# Altium integrated library TKAI0163WP01-01.IntLib: 35 symbols
Pins are listed as number, name and electrical type; pins without a type are passive.

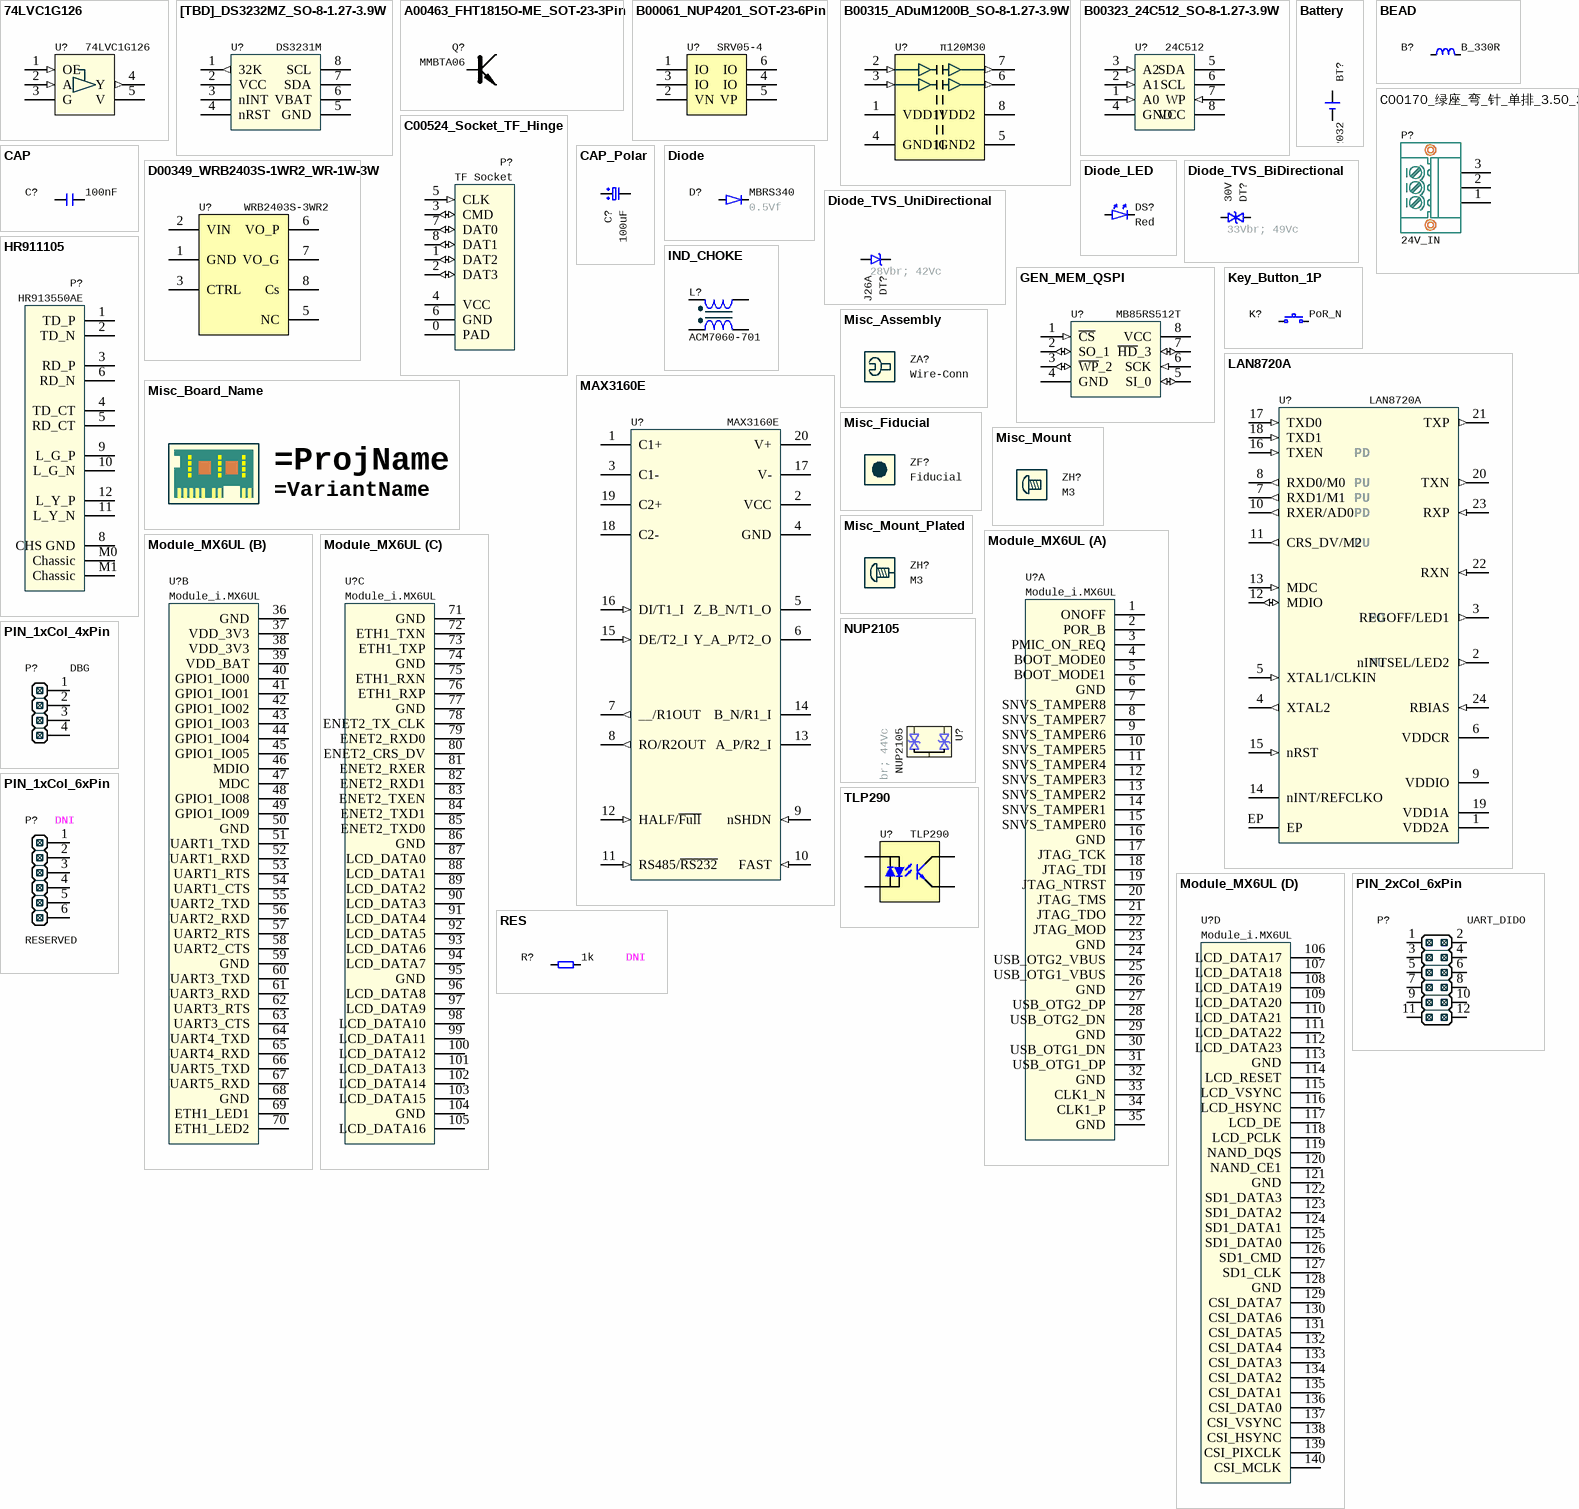
[diagram p0: symbols 74LVC1G126 to TLP290]

## 74LVC1G126
designator U?
U-LVC1G126; 02_CMT: NXP GW, TM: VN; TI DCK, TM: CN; 10_Code: C55052; 11_Name: 贴装芯片_Nexperia_74LVC1G126GW
footprint TSSOP-5P-0.65BSC-2.15x1.40Bmax-1.10Hmax (TSSOP, 5 Pad, JEDEC MO-203 AA)
pins: 1 OE (in), 2 A (in), 3 G (power), 4 Y (out), 5 V (power)

## [TBD]_DS3232MZ_SO-8-1.27-3.9W
designator U?, comment DS3231M
U-DS3231M; 10_Code: C107410; 11_Name: 贴装芯片_DS3231MZ
footprint SO-8-1.27BSC-3.9W (SOIC, 8 Pad, 1.27mm BSC, 3.9mm Width, JEDEC MS-012 AA)
pins: 1 32K (out), 2 VCC (power), 3 nINT (oc), 4 nRST (oc), 5 GND (power), 6 VBAT (power), 7 SDA (oc), 8 SCL (oc)

## A00463_FHT1815O-ME_SOT-23-3Pin
designator Q?, comment MMBTA06
Q-MMBTA06; 10_Code: C8518; 11_Name: 贴装元件_三极管_MMBTA06
footprint SOT-23-3P-0.95BSC-3.00x1.40Bmax-1.20Hmax (SOT-23, 3 Pad, JEDEC TO-236 AA/AB)
pins: BL B, BR E, TC C

## B00061_NUP4201_SOT-23-6Pin
designator U?, comment SRV05-4
U-SRV05-4; 02_CMT: TM: S5; CP: NUP4201MR6T1G, TM: 63; 10_Code: C85364; 11_Name: 贴装芯片_ProTek_SRV05-4-P-T7
footprint SOT-23-6P-0.95BSC-3.00x1.70Bmax-1.45Hmax (SOT-23, 6 Pad, JEDEC MO-178 AB)
pins: 1 IO, 2 VN, 3 IO, 4 IO, 5 VP, 6 IO

## B00315_ADuM1200B_SO-8-1.27-3.9W
designator U?, comment π120M30
U-π120M30; 10_Code: C471595; 11_Name: 贴装芯片_π120M30
footprint SO-8-1.27BSC-3.9W (SOIC, 8 Pad, 1.27mm BSC, 3.9mm Width, JEDEC MS-012 AA)
pins: 1 VDD1 (power), 2 VIA (in), 3 VIB (in), 4 GND1 (power), 5 GND2 (power), 6 VOB (out), 7 VOA (out), 8 VDD2 (power)

## B00323_24C512_SO-8-1.27-3.9W
designator U?, comment 24C512
U-24C512; 02_CMT: TM: 2FCD; 10_Code: C12371; 11_Name: 贴装芯片_AT24C512C-SSHD-T
footprint SO-8-1.27BSC-3.9W (SOIC, 8 Pad, 1.27mm BSC, 3.9mm Width, JEDEC MS-012 AA)
pins: 1 A0 (in), 2 A1 (in), 3 A2 (in), 4 GND (power), 5 SDA (oc), 6 SCL (oc), 7 WP (in), 8 VCC (power)

## Battery
designator BT?, comment CR2032
P-SKT-CR2032; 10_Code: C70377; 11_Name: 贴装插座_CR2032_Q&J_CR2032-BS-6-1
footprint C00015 (C00015, 2 Pad, 贴装插座_CR2032_白, CR2032 Battery Socket)
pins: N, P

## BEAD
designator B?, comment B_330R
B-0603-330R; 02_CMT: TDK MPZ1608S331ATA00; 10_Code: C107334; 11_Name: 贴装磁珠_0603_330R_100MHz_80mRdc_1Amin
footprint B-0603-m1608 (Ferrite Bead, 2 Pad, 0603-m1608)
pins: 1, 2

## C00170_绿座_弯_针_单排_3.50_3P_紧固
designator P?, comment 24V_IN
P-插装绿座_弯_针_单排_3.5_3P_紧固; 11_Name: 插装绿座_弯_针_单排_3.5_3P_紧固
footprint C00170 (C00170, 3 Pad, 插装绿座_弯_针_单排_3.5_3P_紧固, HMRZ HC501M-3.50)
pins: 1, 2, 3

## C00524_Socket_TF_Hinge
designator P?, comment TF Socket
P-TF_Socket; 10_Code: C164170; 11_Name: 贴装插座_TF卡_翻盖_Molex_47219-2001
footprint C00524 (C00524, 12 Pad, 贴装插座_SD卡_0472192001, TF Card Socket, Hinge, Molex 47219-0001/2001/2021)
pins: 0 PAD (power), 1 DAT2 (io), 2 DAT3 (io), 3 CMD (io), 4 VCC (power), 5 CLK (in), 6 GND (power), 7 DAT0 (io), 8 DAT1 (io)

## CAP
designator C?, comment 100nF
C-0603-100nF; 11_Name: 贴装电容_0603_100nF_10%_50V_X7R
footprint C-0603-m1608 (Capacitor, 2 Pad, 0603-m1608)
pins: 1, 2

## CAP_Polar
designator C?, comment 100uF
C-Al-R-D8H9-100uF; 02_CMT: AISHI SPZ1HM101F09O00RAXXX; 10_Code: C171434; 11_Name: 插装固态铝电容_D8_H9_100uF_20%_50V
footprint C-Al-R-D8-H9 (Capacitor Polar, 2 Pad, Al, Radial, D8, H9typ/10max)
pins: 1, 2

## D00349_WRB2403S-1WR2_WR-1W-3W
designator U?, comment WRB2403S-3WR2
U-WRB2403S-3WR2; 11_Name: 插装模块_Mornsun_WRB2403S-3WR2
footprint MORNSUN_WR_1W_3W (Isolated Power Module, 7 Pad, Mornsun WR[A/B]_S-[1/3]W, Isolated DC/DC)
pins: 1 GND (power), 2 VIN (power), 3 CTRL, 5 NC, 6 VO_P (power), 7 VO_G (power), 8 Cs

## Diode
designator D?, comment MBRS340  01_INF: 0.5Vf
D-SMC-MBRS340; 02_CMT: OnSemi MBRS340T3G; 10_Code: C40326; 11_Name: 贴装元件_肖特基二极管_MBRS340_SMC
footprint D-SMC (Diode, 2 Pad, SMC, UniDirection, Case403, JEDEC DO-214 AB)
pins: 1, 2

## Diode_LED
designator DS?, comment Red
DS-0603-LED-Top-Red; 10_Code: C375444; 11_Name: 贴装元件_LED_0603_红
footprint DS-0603-m1608 (Diode LED, 2 Pad, 0603-m1608)
pins: 1, 2

## Diode_TVS_BiDirectional
designator DT?, comment 30V  01_INF: 33Vbr; 49Vc
DT-SMA-SMAJ30CA; 02_CMT: LittleFuse SMAJ30CA; TM: YK; 10_Code: C83322; 11_Name: 贴装元件_双向TVS_SMA_30V
footprint D-SMA-Bi (Diode, 2 Pad, SMA, Bi-Direction, Case403B, JEDEC DO-214 AC)
footprint D-SMB-Bi (Diode, 2 Pad, SMB, Bi-Direction, Case403A, JEDEC DO-214 AA)
footprint D-SMC-Bi (Diode, 2 Pad, SMC, Bi-Direction, Case403, JEDEC DO-214 AB)
footprint D-SMF-BI (Diode, 2 Pad, SMF, Bi-Direction, SOD-123FL, JEDEC DO-219 AB)
pins: 1, 2

## Diode_TVS_UniDirectional
designator DT?, comment SMCJ26A  01_INF: 28Vbr; 42Vc
DT-SMC-SMCJ26A; 02_CMT: LittleFuse SMCJ26A; TM: GFE; 10_Code: C224046; 11_Name: 贴装元件_单向TVS_SMC_26V
footprint D-SMC (Diode, 2 Pad, SMC, UniDirection, Case403, JEDEC DO-214 AB)
pins: 1, 2

## GEN_MEM_QSPI
designator U?, comment MB85RS512T
U-MB85RS512T; 10_Code: C93052; 11_Name: 贴装芯片_MB85RS512T
footprint SO-8-1.27BSC-3.9W (SOIC, 8 Pad, 1.27mm BSC, 3.9mm Width, JEDEC MS-012 AA)
footprint WSON-8-1.27BSC-8x6Body (WSON, 8 Pad, 1.27mm BSC, 8x6mm Body)
pins: 1 ~{CS} (in), 2 SO_1 (io), 3 ~{WP}_2 (io), 4 GND (power), 5 SI_0 (io), 6 SCK (in), 7 ~{HD}_3 (io), 8 VCC (power)

## HR911105
designator P?, comment HR913550AE
P-HR913550AE; 10_Code: C192706; 11_Name: 插装元件_HR913550AE
footprint HanRen_HR911105 (HanRen HR911105, 14 Pad, 插装插座_RJ45_MAG_LED_HR911105)
pins: 1 TD_P, 2 TD_N, 3 RD_P, 4 TD_CT, 5 RD_CT, 6 RD_N, 8 CHS GND, 9 L_G_P, 10 L_G_N, 11 L_Y_N, 12 L_Y_P, M0 Chassic, M1 Chassic

## IND_CHOKE
designator L?, comment ACM7060-701
L-ACM7060-701; 10_Code: C78246; 11_Name: 贴装电感_共模_ACM7060-701-2PL-TL01
footprint TDK_Choke_ACM7060 (Power Choke, 4 Pad, 7.0x6.0mm Body, TDK Power Choke)
pins: A1, A2, B1, B2

## Key_Button_1P
designator K?, comment PoR_N
K-BTN-Top; 10_Code: C118141; 11_Name: 贴装元件_轻触开关_顶按_韩荣_K2-1107ST-A4SW-06
footprint D00008 (D00008, 2 Pad, 开关_复位_3.8*6*2.5_2P_贴装_顶按)
pins: 1, 2

## LAN8720A
designator U?
U-LAN8720A; 10_Code: C17146; 11_Name: 贴装芯片_LAN8720AI
footprint VQFN-24-S-0.5BSC-4.00SQBtyp-2.50SQEPtyp-1.00Hmax (VQFN-24, 25 Pad, JEDEC MO-220 VGGD-2 EP-by-USR, 0.10Btor)
pins: 1 VDD2A (power), 2 nINTSEL/LED2 (out), 3 REGOFF/LED1 (out), 4 XTAL2 (out), 5 XTAL1/CLKIN (in), 6 VDDCR (power), 7 RXD1/M1 (out), 8 RXD0/M0 (out), 9 VDDIO (power), 10 RXER/AD0 (out), 11 CRS_DV/M2 (out), 12 MDIO (io), 13 MDC (in), 14 nINT/REFCLKO (oc), 15 nRST (in), 16 TXEN (in), 17 TXD0 (in), 18 TXD1 (in), 19 VDD1A (power), 20 TXN (out), 21 TXP (out), 22 RXN (in), 23 RXP (in), 24 RBIAS (in), EP (power)
text: PD; PU

## MAX3160E
designator U?
U-MAX3160E; 10_Code: C118484; 11_Name: 贴装芯片_MAX3160EEAP
footprint SSOP-20-0.65BSC-5.3W (SSOP, 20 Pad, 0.65mm BSC, 5.3mm Width, JEDEC MO-150 AE)
pins: 1 C1+, 2 VCC (power), 3 C1-, 4 GND (power), 5 Z_B_N/T1_O, 6 Y_A_P/T2_O, 7 __/R1OUT (out), 8 RO/R2OUT (out), 9 nSHDN (in), 10 FAST (in), 11 RS485/~{RS232} (in), 12 HALF/~{Full} (in), 13 A_P/R2_I, 14 B_N/R1_I, 15 DE/T2_I (in), 16 DI/T1_I (in), 17 V-, 18 C2-, 19 C2+, 20 V+

## Misc_Assembly
designator ZA?, comment Wire-Conn  (mechanical)
ZA-插装绿头_弯_孔_单排_3.81_6P紧固; 00_DNI: AddOn; 11_Name: 插装绿头_弯_孔_单排_3.81_6P紧固

## Misc_Board_Name
designator ZBoard?  (graphical)
[Board Name]; 02_CMT: =VariantName

## Misc_Fiducial
designator ZF?, comment Fiducial  (no BOM)
ZF
footprint ZF_Fiducial_1mm (Fiducial Marker, Circle Dot d=1mm, Rectangle l=2mm)

## Misc_Mount
designator ZH?, comment M3  (no BOM)
ZH
footprint ZH_Mount_NPH_M3.0 (Mounting Hole, Not Plated, M3.0, 8sqmm Space)
footprint ZH_Mount_NPH_M2.0 (Mounting Hole, Not Plated, M2.0, 6sqmm Space)
footprint ZH_Mount_NPH_M4.0 (Mounting Hole, Not Plated, M4.0, 10sqmm Space)

## Misc_Mount_Plated
designator ZH?, comment M3  (no BOM)
ZH; ARG-CON-Dir: YES
footprint ZH_Mount_PH_M3.0 (Mounting Hole, Plated, M3.0, 8sqmm Space)
footprint ZH_Mount_PH_M2.0 (Mounting Hole, Plated, M2.0, 6sqmm Space)
footprint ZH_Mount_PH_M4.0 (Mounting Hole, Plated, M4.0, 10sqmm Space)
pins: H

## Module_MX6UL
designator U?, comment Module_i.MX6UL
U-Module; 11_Name: 贴装元件_模块_i.MX6UL_米尔_MYC-Y6ULY2-4E512D-50-I
footprint MYC-Y6ULX (MYC-Y6ULX, 140 Pad, i.MX6UL? Module)
part A pins: 1 ONOFF, 2 POR_B, 3 PMIC_ON_REQ, 4 BOOT_MODE0, 5 BOOT_MODE1, 6 GND, 7 SNVS_TAMPER8, 8 SNVS_TAMPER7, 9 SNVS_TAMPER6, 10 SNVS_TAMPER5, 11 SNVS_TAMPER4, 12 SNVS_TAMPER3, 13 SNVS_TAMPER2, 14 SNVS_TAMPER1, 15 SNVS_TAMPER0, 16 GND, 17 JTAG_TCK, 18 JTAG_TDI, 19 JTAG_NTRST, 20 JTAG_TMS, 21 JTAG_TDO, 22 JTAG_MOD, 23 GND, 24 USB_OTG2_VBUS, 25 USB_OTG1_VBUS, 26 GND, 27 USB_OTG2_DP, 28 USB_OTG2_DN, 29 GND, 30 USB_OTG1_DN, 31 USB_OTG1_DP, 32 GND, 33 CLK1_N, 34 CLK1_P, 35 GND
part B pins: 36 GND, 37 VDD_3V3, 38 VDD_3V3, 39 VDD_BAT, 40 GPIO1_IO00, 41 GPIO1_IO01, 42 GPIO1_IO02, 43 GPIO1_IO03, 44 GPIO1_IO04, 45 GPIO1_IO05, 46 MDIO, 47 MDC, 48 GPIO1_IO08, 49 GPIO1_IO09, 50 GND, 51 UART1_TXD, 52 UART1_RXD, 53 UART1_RTS, 54 UART1_CTS, 55 UART2_TXD, 56 UART2_RXD, 57 UART2_RTS, 58 UART2_CTS, 59 GND, 60 UART3_TXD, 61 UART3_RXD, 62 UART3_RTS, 63 UART3_CTS, 64 UART4_TXD, 65 UART4_RXD, 66 UART5_TXD, 67 UART5_RXD, 68 GND, 69 ETH1_LED1, 70 ETH1_LED2
part C pins: 71 GND, 72 ETH1_TXN, 73 ETH1_TXP, 74 GND, 75 ETH1_RXN, 76 ETH1_RXP, 77 GND, 78 ENET2_TX_CLK, 79 ENET2_RXD0, 80 ENET2_CRS_DV, 81 ENET2_RXER, 82 ENET2_RXD1, 83 ENET2_TXEN, 84 ENET2_TXD1, 85 ENET2_TXD0, 86 GND, 87 LCD_DATA0, 88 LCD_DATA1, 89 LCD_DATA2, 90 LCD_DATA3, 91 LCD_DATA4, 92 LCD_DATA5, 93 LCD_DATA6, 94 LCD_DATA7, 95 GND, 96 LCD_DATA8, 97 LCD_DATA9, 98 LCD_DATA10, 99 LCD_DATA11, 100 LCD_DATA12, 101 LCD_DATA13, 102 LCD_DATA14, 103 LCD_DATA15, 104 GND, 105 LCD_DATA16
part D pins: 106 LCD_DATA17, 107 LCD_DATA18, 108 LCD_DATA19, 109 LCD_DATA20, 110 LCD_DATA21, 111 LCD_DATA22, 112 LCD_DATA23, 113 GND, 114 LCD_RESET, 115 LCD_VSYNC, 116 LCD_HSYNC, 117 LCD_DE, 118 LCD_PCLK, 119 NAND_DQS, 120 NAND_CE1, 121 GND, 122 SD1_DATA3, 123 SD1_DATA2, 124 SD1_DATA1, 125 SD1_DATA0, 126 SD1_CMD, 127 SD1_CLK, 128 GND, 129 CSI_DATA7, 130 CSI_DATA6, 131 CSI_DATA5, 132 CSI_DATA4, 133 CSI_DATA3, 134 CSI_DATA2, 135 CSI_DATA1, 136 CSI_DATA0, 137 CSI_VSYNC, 138 CSI_HSYNC, 139 CSI_PIXCLK, 140 CSI_MCLK

## NUP2105
designator U?  01_INF: 26Vbr; 44Vc
U-NUP2105; 02_CMT: TM: 27E; 10_Code: C14486; 11_Name: 贴装芯片_NUP2105LT1G
footprint SOT-23-3P-0.95BSC-3.00x1.40Bmax-1.12Hmax (SOT-23, 3 Pad, JEDEC TO-236 AB)
pins: BL TVS, BR TVS, TC GND

## PIN_1xCol_4xPin
designator P?, comment DBG
P-XH_2.50_TOP_4P; 11_Name: 插装插座_XH_2.50_TOP_4P
footprint XH_2.50_TOP_4P (XH_2.50_TOP_4P, 4 Pad, JST XH 2.50mm Top Entry, B4B-XH-A / B4B-XH-2 / B4B-XH-AM)
pins: 1, 2, 3, 4

## PIN_1xCol_6xPin
designator P?, comment RESERVED  00_DNI: DNI
P-IDC-2.54-6P; 11_Name: 插装元件_IDC排针_2.54_6P
footprint IDC_PIN_2.54_8.54H_6Pin (C00008, 6 Pad, 插装插针_直_单排_2.54_40P(6P), 2.54mm BSC, 8.54mm TOP, 3mm BOT)
pins: 1, 2, 3, 4, 5, 6

## PIN_2xCol_6xPin
designator P?, comment UART_DIDO
P-EDG-2x6; 11_Name: 插装元件_KF2EDGRHM-3.5-12P
footprint KF2EDGRHM-3.81-2x6P (KF2EDGRHM-3.81-2x6P, 12 Pad, CONN)
pins: 1, 2, 3, 4, 5, 6, 7, 8, 9, 10, 11, 12

## RES
designator R?, comment 1k  00_DNI: DNI
R-0603-1k; 11_Name: 贴装电阻_0603_1k_1%_1/10W
footprint R-0603-m1608 (Resistor, 2 Pad, 0603-m1608, 0.1W, 75V, 1A)
pins: 1, 2

## TLP290
designator U?
U-TLP290; 10_Code: C424197; 11_Name: 贴装芯片_TLP290
footprint SO-4-1.27BSC-4.6W-TLP (SOIC, 4 Pad, 1.27mm BSC, 4.6mm Width, Toshiba TLP PhotoCoupler)
pins: 1, 2, 3, 4